# Altium footprint library CN_IDC.PcbLib: 43 footprints (part 3 of 3)
Each footprint in its own frame and in the unit in brackets; x right, y up, seen from the top. Pads: shape width x height; smd on the part's side, far side on the other; paste and mask are expansions set on the pad; w line width, h text height; cw(c..) or ccw(c..) is an arc to the next point about the centre after c.
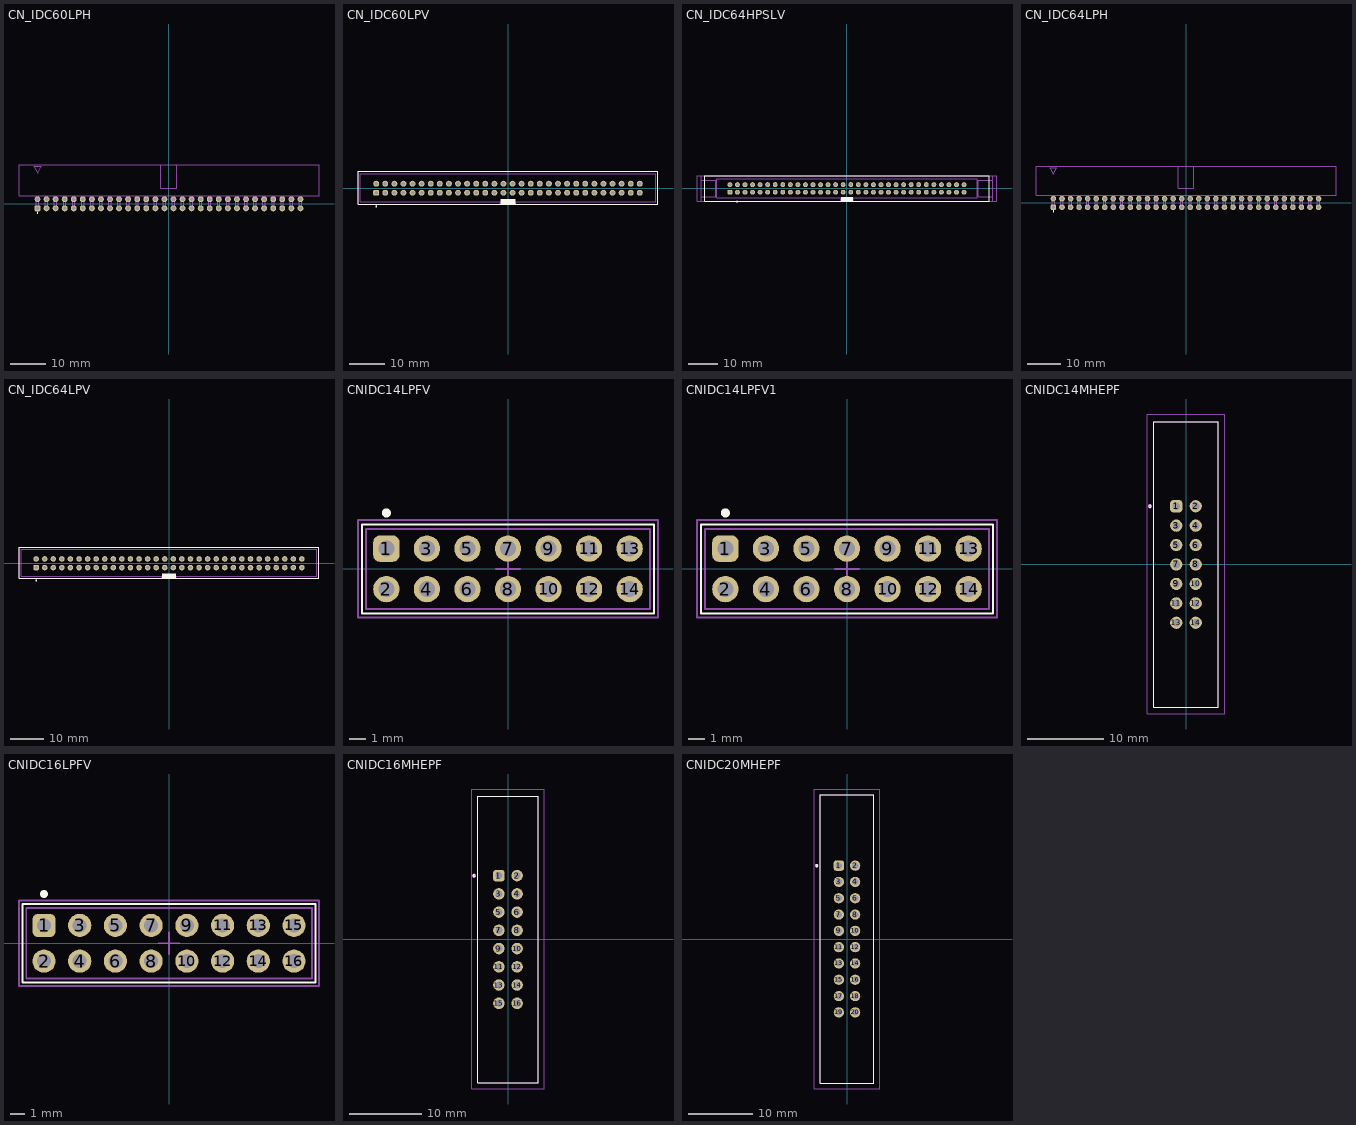
[diagram p2: the footprints below, top view; thin cyan lines are the x and y axes]

## CN_IDC60LPH [mm] "Connector IDC Low Profile Male Header, Thru-Hole; 60 pin; Hertical; R2.54 mm; Body 50.8 x 9.2 x 8.6 mm (LxWxH)"
height 8.6
pads (60):
  rrect50% 1.65x1.65 hole 1: 1(-36.83,-1.27)
  round 1.65 hole 1: 2(-36.83,1.27) 3(-34.29,-1.27) 4(-34.29,1.27) 5(-31.75,-1.27) 6(-31.75,1.27) 7(-29.21,-1.27) 8(-29.21,1.27) 9(-26.67,-1.27) 10(-26.67,1.27) 11(-24.13,-1.27) 12(-24.13,1.27) 13(-21.59,-1.27) 14(-21.59,1.27) 15(-19.05,-1.27) 16(-19.05,1.27) 17(-16.51,-1.27) 18(-16.51,1.27) 19(-13.97,-1.27) 20(-13.97,1.27) 21(-11.43,-1.27) 22(-11.43,1.27) 23(-8.89,-1.27) 24(-8.89,1.27) 25(-6.35,-1.27) 26(-6.35,1.27) 27(-3.81,-1.27) 28(-3.81,1.27) 29(-1.27,-1.27) 30(-1.27,1.27) 31(1.27,-1.27) 32(1.27,1.27) 33(3.81,-1.27) 34(3.81,1.27) 35(6.35,-1.27) 36(6.35,1.27) 37(8.89,-1.27) 38(8.89,1.27) 39(11.43,-1.27) 40(11.43,1.27) 41(13.97,-1.27) 42(13.97,1.27) 43(16.51,-1.27) 44(16.51,1.27) 45(19.05,-1.27) 46(19.05,1.27) 47(21.59,-1.27) 48(21.59,1.27) 49(24.13,-1.27) 50(24.13,1.27) 51(26.67,-1.27) 52(26.67,1.27) 53(29.21,-1.27) 54(29.21,1.27) 55(31.75,-1.27) 56(31.75,1.27) 57(34.29,-1.27) 58(34.29,1.27) 59(36.83,-1.27) 60(36.83,1.27)
Top Overlay:
  circle w0.15: c-36.835,-2.5 r0.125
Mechanical 13:
  lines w0.1: -37.16,2.286 -37.16,-1.6 -36.5,-1.6 -36.5,2.286 ; -34.62,2.286 -34.62,-1.6 -33.96,-1.6 -33.96,2.286 ; -32.08,2.286 -32.08,-1.6 -31.42,-1.6 -31.42,2.286 ; -29.54,2.286 -29.54,-1.6 -28.88,-1.6 -28.88,2.286 ; -27,2.286 -27,-1.6 -26.34,-1.6 -26.34,2.286 ; -24.46,2.286 -24.46,-1.6 -23.8,-1.6 -23.8,2.286 ; -21.92,2.286 -21.92,-1.6 -21.26,-1.6 -21.26,2.286 ; -19.38,2.286 -19.38,-1.6 -18.72,-1.6 -18.72,2.286 ; -16.84,2.286 -16.84,-1.6 -16.18,-1.6 -16.18,2.286 ; -14.3,2.286 -14.3,-1.6 -13.64,-1.6 -13.64,2.286 ; -11.76,2.286 -11.76,-1.6 -11.1,-1.6 -11.1,2.286 ; -9.22,2.286 -9.22,-1.6 -8.56,-1.6 -8.56,2.286 ; -6.68,2.286 -6.68,-1.6 -6.02,-1.6 -6.02,2.286 ; -4.14,2.286 -4.14,-1.6 -3.48,-1.6 -3.48,2.286 ; -2.25,4.318 2.225,4.318 ; -1.6,2.286 -1.6,-1.6 -0.94,-1.6 -0.94,2.286 ; 0.94,2.286 0.94,-1.6 1.6,-1.6 1.6,2.286 ; 3.48,2.286 3.48,-1.6 4.14,-1.6 4.14,2.286 ; 6.02,2.286 6.02,-1.6 6.68,-1.6 6.68,2.286 ; 8.56,2.286 8.56,-1.6 9.22,-1.6 9.22,2.286 ; 11.1,2.286 11.1,-1.6 11.76,-1.6 11.76,2.286 ; 13.64,2.286 13.64,-1.6 14.3,-1.6 14.3,2.286 ; 16.18,2.286 16.18,-1.6 16.84,-1.6 16.84,2.286 ; 18.72,2.286 18.72,-1.6 19.38,-1.6 19.38,2.286 ; 21.26,2.286 21.26,-1.6 21.92,-1.6 21.92,2.286 ; 23.8,2.286 23.8,-1.6 24.46,-1.6 24.46,2.286 ; 26.34,2.286 26.34,-1.6 27,-1.6 27,2.286 ; 28.88,2.286 28.88,-1.6 29.54,-1.6 29.54,2.286 ; 31.42,2.286 31.42,-1.6 32.08,-1.6 32.08,2.286 ; 33.96,2.286 33.96,-1.6 34.62,-1.6 34.62,2.286 ; 36.5,2.286 36.5,-1.6 37.16,-1.6 37.16,2.286
  lines w0.102: -2.25,4.318 -2.25,10.922 ; 2.25,4.343 2.25,10.922 ; -42.012,2.286 -42.012,10.922 42.037,10.922 42.037,2.286 -42.012,2.286
  lines w0.15: -37.875,10.472 -36.825,8.597 -35.775,10.472 -37.875,10.472
  text "60" at 38.03,0.52 h1.5
  text "59" at 38.03,-2.02 h1.5
  text "1" at -38.53,-2.02 h1.5
  text "2" at -39.03,0.52 h1.5
3D body: height 9.2, standoff -3.2, extent -42.01,-1.598 42.01,10.922

## CN_IDC60LPV [mm] "Connector IDC Low Profile Male Header, Thru-Hole; 60 pin; Vertical; R2.54 mm; Body 83.8 x 9.2 x 9.45 mm (LxWxH)"
height 9.45
pads (60):
  rrect50% 1.65x1.65 hole 1: 1(-36.83,-1.27)
  round 1.65 hole 1: 2(-36.83,1.27) 3(-34.29,-1.27) 4(-34.29,1.27) 5(-31.75,-1.27) 6(-31.75,1.27) 7(-29.21,-1.27) 8(-29.21,1.27) 9(-26.67,-1.27) 10(-26.67,1.27) 11(-24.13,-1.27) 12(-24.13,1.27) 13(-21.59,-1.27) 14(-21.59,1.27) 15(-19.05,-1.27) 16(-19.05,1.27) 17(-16.51,-1.27) 18(-16.51,1.27) 19(-13.97,-1.27) 20(-13.97,1.27) 21(-11.43,-1.27) 22(-11.43,1.27) 23(-8.89,-1.27) 24(-8.89,1.27) 25(-6.35,-1.27) 26(-6.35,1.27) 27(-3.81,-1.27) 28(-3.81,1.27) 29(-1.27,-1.27) 30(-1.27,1.27) 31(1.27,-1.27) 32(1.27,1.27) 33(3.81,-1.27) 34(3.81,1.27) 35(6.35,-1.27) 36(6.35,1.27) 37(8.89,-1.27) 38(8.89,1.27) 39(11.43,-1.27) 40(11.43,1.27) 41(13.97,-1.27) 42(13.97,1.27) 43(16.51,-1.27) 44(16.51,1.27) 45(19.05,-1.27) 46(19.05,1.27) 47(21.59,-1.27) 48(21.59,1.27) 49(24.13,-1.27) 50(24.13,1.27) 51(26.67,-1.27) 52(26.67,1.27) 53(29.21,-1.27) 54(29.21,1.27) 55(31.75,-1.27) 56(31.75,1.27) 57(34.29,-1.27) 58(34.29,1.27) 59(36.83,-1.27) 60(36.83,1.27)
Top Overlay:
  circle w0.15: c-36.828,-5.08 r0.125
  rectangle: -2.1,-4.473 2.1,-3.048
  lines w0.15: -41.91,-4.463 41.91,-4.463 41.91,4.773 -41.91,4.773 -41.91,-4.463
Mechanical 13:
  lines w0.102: -2.2,-4.473 -2.2,-3.8 -41.275,-3.8 -41.275,4.11 41.275,4.11 41.275,-3.8 2.2,-3.8 2.2,-4.473 ; -41.91,-4.46 -41.91,4.77 41.91,4.77 41.91,-4.46 -41.91,-4.46
  text "2" at -39.03,0.52 h1.5
  text "1" at -38.53,-2.02 h1.5
  text "59" at 38.03,-2.02 h1.5
  text "60" at 38.03,0.52 h1.5
3D body: height 9.4, standoff -3.25, extent -42.01,-4.45 42.01,4.75

## CN_IDC64HPSLV [mm] "Connector IDC High Profile Male Header, Thru-Hole; 64pin; Vertical; R2.54 mm; Body 17.78 x 9.2 x 9.45 mm (LxWxH)"
height 9.45
pads (64):
  rrect50% 1.65x1.65 hole 1: 1(-39.37,-1.27)
  round 1.65 hole 1: 2(-39.37,1.27) 3(-36.83,-1.27) 4(-36.83,1.27) 5(-34.29,-1.27) 6(-34.29,1.27) 7(-31.75,-1.27) 8(-31.75,1.27) 9(-29.21,-1.27) 10(-29.21,1.27) 11(-26.67,-1.27) 12(-26.67,1.27) 13(-24.13,-1.27) 14(-24.13,1.27) 15(-21.59,-1.27) 16(-21.59,1.27) 17(-19.05,-1.27) 18(-19.05,1.27) 19(-16.51,-1.27) 20(-16.51,1.27) 21(-13.97,-1.27) 22(-13.97,1.27) 23(-11.43,-1.27) 24(-11.43,1.27) 25(-8.89,-1.27) 26(-8.89,1.27) 27(-6.35,-1.27) 28(-6.35,1.27) 29(-3.81,-1.27) 30(-3.81,1.27) 31(-1.27,-1.27) 32(-1.27,1.27) 33(1.27,-1.27) 34(1.27,1.27) 35(3.81,-1.27) 36(3.81,1.27) 37(6.35,-1.27) 38(6.35,1.27) 39(8.89,-1.27) 40(8.89,1.27) 41(11.43,-1.27) 42(11.43,1.27) 43(13.97,-1.27) 44(13.97,1.27) 45(16.51,-1.27) 46(16.51,1.27) 47(19.05,-1.27) 48(19.05,1.27) 49(21.59,-1.27) 50(21.59,1.27) 51(24.13,-1.27) 52(24.13,1.27) 53(26.67,-1.27) 54(26.67,1.27) 55(29.21,-1.27) 56(29.21,1.27) 57(31.75,-1.27) 58(31.75,1.27) 59(34.29,-1.27) 60(34.29,1.27) 61(36.83,-1.27) 62(36.83,1.27) 63(39.37,-1.27) 64(39.37,1.27)
Top Overlay:
  circle w0.15: c-36.955,-4.445 r0.125
  rectangle: -2.05,-4.25 2.05,-2.825
  lines w0.15: -47.892,-4.25 -47.892,4.2 47.908,4.2 47.908,-4.25 -47.892,-4.25
Mechanical 13:
  lines w0.1: -49.005,-4.25 -49.005,4.2 ; -49.005,-2.775 -44.105,-2.775 -44.105,2.775 -49.005,2.775 ; 49.005,-4.25 49.005,4.2 ; 49.005,-2.775 44.105,-2.775 44.105,2.775 49.005,2.775
  lines w0.102: -2.159,-4.25 -2.159,-3.2 -43.815,-3.2 -43.815,3.25 43.815,3.25 43.815,-3.2 2.159,-3.2 2.159,-4.25 ; -50.432,-4.25 -50.432,4.2 50.448,4.2 50.448,-4.25 -50.432,-4.25
  text "63" at 40.57,-2.02 h1.5
  text "64" at 40.57,0.52 h1.5
  text "1" at -41.07,-2.02 h1.5
  text "2" at -41.57,0.52 h1.5
3D body: height 14, standoff -2.9, extent 36.53,0.97 37.13,1.57
3D body: height 14, standoff -2.9, extent 36.53,-1.57 37.13,-0.97
3D body: height 14, standoff -2.9, extent 33.99,-1.57 34.59,-0.97
3D body: height 14, standoff -2.9, extent 33.99,0.97 34.59,1.57
3D body: height 14, standoff -2.9, extent -14.27,0.97 -13.67,1.57
3D body: height 14, standoff -2.9, extent -14.27,-1.57 -13.67,-0.97
3D body: height 14, standoff -2.9, extent -16.81,-1.57 -16.21,-0.97
3D body: height 14, standoff -2.9, extent -16.81,0.97 -16.21,1.57
3D body: height 14, standoff -2.9, extent -32.05,0.97 -31.45,1.57
3D body: height 14, standoff -2.9, extent -32.05,-1.57 -31.45,-0.97
3D body: height 14, standoff -2.9, extent -21.89,0.97 -21.29,1.57
3D body: height 14, standoff -2.9, extent -21.89,-1.57 -21.29,-0.97
3D body: height 14, standoff -2.9, extent -24.43,-1.57 -23.83,-0.97
3D body: height 14, standoff -2.9, extent -24.43,0.97 -23.83,1.57
3D body: height 14, standoff -2.9, extent -29.51,-1.57 -28.91,-0.97
3D body: height 14, standoff -2.9, extent -29.51,0.97 -28.91,1.57
3D body: height 14, standoff -2.9, extent -26.97,0.97 -26.37,1.57
3D body: height 14, standoff -2.9, extent -26.97,-1.57 -26.37,-0.97
3D body: height 23.59, standoff -2.91, extent -50.432,-4.25 50.448,4.25
3D body: height 14, standoff -2.9, extent -19.35,-1.57 -18.75,-0.97
3D body: height 14, standoff -2.9, extent -19.35,0.97 -18.75,1.57
3D body: height 14, standoff -2.9, extent -11.73,0.97 -11.13,1.57
3D body: height 14, standoff -2.9, extent -11.73,-1.57 -11.13,-0.97
3D body: height 14, standoff -2.9, extent -9.19,0.97 -8.59,1.57
3D body: height 14, standoff -2.9, extent -9.19,-1.57 -8.59,-0.97
3D body: height 14, standoff -2.9, extent -6.65,-1.57 -6.05,-0.97
3D body: height 14, standoff -2.9, extent -6.65,0.97 -6.05,1.57
3D body: height 14, standoff -2.9, extent -34.59,0.97 -33.99,1.57
3D body: height 14, standoff -2.9, extent -34.59,-1.57 -33.99,-0.97
3D body: height 14, standoff -2.9, extent -37.13,-1.57 -36.53,-0.97
3D body: height 14, standoff -2.9, extent -37.13,0.97 -36.53,1.57
3D body: height 14, standoff -2.9, extent -1.57,0.97 -0.97,1.57
3D body: height 14, standoff -2.9, extent -1.57,-1.57 -0.97,-0.97
3D body: height 14, standoff -2.9, extent -4.11,-1.57 -3.51,-0.97
3D body: height 14, standoff -2.9, extent -4.11,0.97 -3.51,1.57
3D body: height 14, standoff -2.9, extent 3.51,0.97 4.11,1.57
3D body: height 14, standoff -2.9, extent 3.51,-1.57 4.11,-0.97
3D body: height 14, standoff -2.9, extent 6.05,-1.57 6.65,-0.97
3D body: height 14, standoff -2.9, extent 6.05,0.97 6.65,1.57
3D body: height 14, standoff -2.9, extent 0.97,0.97 1.57,1.57
3D body: height 14, standoff -2.9, extent 0.97,-1.57 1.57,-0.97
3D body: height 14, standoff -2.9, extent 13.67,-1.57 14.27,-0.97
3D body: height 14, standoff -2.9, extent 13.67,0.97 14.27,1.57
3D body: height 14, standoff -2.9, extent 18.75,0.97 19.35,1.57
3D body: height 14, standoff -2.9, extent 18.75,-1.57 19.35,-0.97
3D body: height 14, standoff -2.9, extent 16.21,-1.57 16.81,-0.97
3D body: height 14, standoff -2.9, extent 16.21,0.97 16.81,1.57
3D body: height 14, standoff -2.9, extent 8.59,0.97 9.19,1.57
3D body: height 14, standoff -2.9, extent 8.59,-1.57 9.19,-0.97
3D body: height 14, standoff -2.9, extent 11.13,-1.57 11.73,-0.97
3D body: height 14, standoff -2.9, extent 11.13,0.97 11.73,1.57
3D body: height 14, standoff -2.9, extent 23.83,0.97 24.43,1.57
3D body: height 14, standoff -2.9, extent 23.83,-1.57 24.43,-0.97
3D body: height 14, standoff -2.9, extent 21.29,-1.57 21.89,-0.97
3D body: height 14, standoff -2.9, extent 21.29,0.97 21.89,1.57
3D body: height 14, standoff -2.9, extent 28.91,0.97 29.51,1.57
3D body: height 14, standoff -2.9, extent 28.91,-1.57 29.51,-0.97
3D body: height 14, standoff -2.9, extent 31.45,-1.57 32.05,-0.97
3D body: height 14, standoff -2.9, extent 31.45,0.97 32.05,1.57
3D body: height 14, standoff -2.9, extent 26.37,0.97 26.97,1.57
3D body: height 14, standoff -2.9, extent 26.37,-1.57 26.97,-0.97

## CN_IDC64LPH [mm] "Connector IDC Low Profile Male Header, Thru-Hole; 64 pin; Hertical; R2.54 mm; Body 50.8 x 9.2 x 8.6 mm (LxWxH)"
height 8.6
pads (64):
  rrect50% 1.65x1.65 hole 1: 1(-39.37,-1.27)
  round 1.65 hole 1: 2(-39.37,1.27) 3(-36.83,-1.27) 4(-36.83,1.27) 5(-34.29,-1.27) 6(-34.29,1.27) 7(-31.75,-1.27) 8(-31.75,1.27) 9(-29.21,-1.27) 10(-29.21,1.27) 11(-26.67,-1.27) 12(-26.67,1.27) 13(-24.13,-1.27) 14(-24.13,1.27) 15(-21.59,-1.27) 16(-21.59,1.27) 17(-19.05,-1.27) 18(-19.05,1.27) 19(-16.51,-1.27) 20(-16.51,1.27) 21(-13.97,-1.27) 22(-13.97,1.27) 23(-11.43,-1.27) 24(-11.43,1.27) 25(-8.89,-1.27) 26(-8.89,1.27) 27(-6.35,-1.27) 28(-6.35,1.27) 29(-3.81,-1.27) 30(-3.81,1.27) 31(-1.27,-1.27) 32(-1.27,1.27) 33(1.27,-1.27) 34(1.27,1.27) 35(3.81,-1.27) 36(3.81,1.27) 37(6.35,-1.27) 38(6.35,1.27) 39(8.89,-1.27) 40(8.89,1.27) 41(11.43,-1.27) 42(11.43,1.27) 43(13.97,-1.27) 44(13.97,1.27) 45(16.51,-1.27) 46(16.51,1.27) 47(19.05,-1.27) 48(19.05,1.27) 49(21.59,-1.27) 50(21.59,1.27) 51(24.13,-1.27) 52(24.13,1.27) 53(26.67,-1.27) 54(26.67,1.27) 55(29.21,-1.27) 56(29.21,1.27) 57(31.75,-1.27) 58(31.75,1.27) 59(34.29,-1.27) 60(34.29,1.27) 61(36.83,-1.27) 62(36.83,1.27) 63(39.37,-1.27) 64(39.37,1.27)
Top Overlay:
  circle w0.15: c-39.375,-2.5 r0.125
Mechanical 13:
  lines w0.1: -39.7,2.286 -39.7,-1.6 -39.04,-1.6 -39.04,2.286 ; -37.16,2.286 -37.16,-1.6 -36.5,-1.6 -36.5,2.286 ; -34.62,2.286 -34.62,-1.6 -33.96,-1.6 -33.96,2.286 ; -32.08,2.286 -32.08,-1.6 -31.42,-1.6 -31.42,2.286 ; -29.54,2.286 -29.54,-1.6 -28.88,-1.6 -28.88,2.286 ; -27,2.286 -27,-1.6 -26.34,-1.6 -26.34,2.286 ; -24.46,2.286 -24.46,-1.6 -23.8,-1.6 -23.8,2.286 ; -21.92,2.286 -21.92,-1.6 -21.26,-1.6 -21.26,2.286 ; -19.38,2.286 -19.38,-1.6 -18.72,-1.6 -18.72,2.286 ; -16.84,2.286 -16.84,-1.6 -16.18,-1.6 -16.18,2.286 ; -14.3,2.286 -14.3,-1.6 -13.64,-1.6 -13.64,2.286 ; -11.76,2.286 -11.76,-1.6 -11.1,-1.6 -11.1,2.286 ; -9.22,2.286 -9.22,-1.6 -8.56,-1.6 -8.56,2.286 ; -6.68,2.286 -6.68,-1.6 -6.02,-1.6 -6.02,2.286 ; -4.14,2.286 -4.14,-1.6 -3.48,-1.6 -3.48,2.286 ; -2.25,4.318 2.225,4.318 ; -1.6,2.286 -1.6,-1.6 -0.94,-1.6 -0.94,2.286 ; 0.94,2.286 0.94,-1.6 1.6,-1.6 1.6,2.286 ; 3.48,2.286 3.48,-1.6 4.14,-1.6 4.14,2.286 ; 6.02,2.286 6.02,-1.6 6.68,-1.6 6.68,2.286 ; 8.56,2.286 8.56,-1.6 9.22,-1.6 9.22,2.286 ; 11.1,2.286 11.1,-1.6 11.76,-1.6 11.76,2.286 ; 13.64,2.286 13.64,-1.6 14.3,-1.6 14.3,2.286 ; 16.18,2.286 16.18,-1.6 16.84,-1.6 16.84,2.286 ; 18.72,2.286 18.72,-1.6 19.38,-1.6 19.38,2.286 ; 21.26,2.286 21.26,-1.6 21.92,-1.6 21.92,2.286 ; 23.8,2.286 23.8,-1.6 24.46,-1.6 24.46,2.286 ; 26.34,2.286 26.34,-1.6 27,-1.6 27,2.286 ; 28.88,2.286 28.88,-1.6 29.54,-1.6 29.54,2.286 ; 31.42,2.286 31.42,-1.6 32.08,-1.6 32.08,2.286 ; 33.96,2.286 33.96,-1.6 34.62,-1.6 34.62,2.286 ; 36.5,2.286 36.5,-1.6 37.16,-1.6 37.16,2.286 ; 39.04,2.286 39.04,-1.6 39.7,-1.6 39.7,2.286
  lines w0.102: -2.25,4.318 -2.25,10.922 ; 2.25,4.343 2.25,10.922 ; -44.552,2.286 44.552,2.286 44.552,10.922 -44.552,10.922 -44.552,2.286
  lines w0.15: -40.415,10.472 -38.315,10.472 -39.365,8.597 -40.415,10.472
  text "2" at -41.57,0.52 h1.5
  text "1" at -41.07,-2.02 h1.5
  text "63" at 40.57,-2.02 h1.5
  text "64" at 40.57,0.52 h1.5
3D body: height 9.2, standoff -3.2, extent -44.55,-1.598 44.55,10.922

## CN_IDC64LPV [mm] "Connector IDC Low Profile Male Header, Thru-Hole; 64pin; Vertical; R2.54 mm; Body 83.8 x 9.2 x 9.45 mm (LxWxH)"
height 9.45
pads (64):
  rrect50% 1.65x1.65 hole 1: 1(-39.37,-1.27)
  round 1.65 hole 1: 2(-39.37,1.27) 3(-36.83,-1.27) 4(-36.83,1.27) 5(-34.29,-1.27) 6(-34.29,1.27) 7(-31.75,-1.27) 8(-31.75,1.27) 9(-29.21,-1.27) 10(-29.21,1.27) 11(-26.67,-1.27) 12(-26.67,1.27) 13(-24.13,-1.27) 14(-24.13,1.27) 15(-21.59,-1.27) 16(-21.59,1.27) 17(-19.05,-1.27) 18(-19.05,1.27) 19(-16.51,-1.27) 20(-16.51,1.27) 21(-13.97,-1.27) 22(-13.97,1.27) 23(-11.43,-1.27) 24(-11.43,1.27) 25(-8.89,-1.27) 26(-8.89,1.27) 27(-6.35,-1.27) 28(-6.35,1.27) 29(-3.81,-1.27) 30(-3.81,1.27) 31(-1.27,-1.27) 32(-1.27,1.27) 33(1.27,-1.27) 34(1.27,1.27) 35(3.81,-1.27) 36(3.81,1.27) 37(6.35,-1.27) 38(6.35,1.27) 39(8.89,-1.27) 40(8.89,1.27) 41(11.43,-1.27) 42(11.43,1.27) 43(13.97,-1.27) 44(13.97,1.27) 45(16.51,-1.27) 46(16.51,1.27) 47(19.05,-1.27) 48(19.05,1.27) 49(21.59,-1.27) 50(21.59,1.27) 51(24.13,-1.27) 52(24.13,1.27) 53(26.67,-1.27) 54(26.67,1.27) 55(29.21,-1.27) 56(29.21,1.27) 57(31.75,-1.27) 58(31.75,1.27) 59(34.29,-1.27) 60(34.29,1.27) 61(36.83,-1.27) 62(36.83,1.27) 63(39.37,-1.27) 64(39.37,1.27)
Top Overlay:
  circle w0.15: c-39.368,-5.08 r0.125
  rectangle: -2.1,-4.473 2.1,-3.048
  lines w0.15: -44.45,-4.463 44.425,-4.463 44.425,4.773 -44.45,4.773 -44.45,-4.463
Mechanical 13:
  lines w0.102: -2.2,-4.473 -2.2,-3.8 -43.815,-3.8 -43.815,4.11 43.79,4.11 43.79,-3.8 2.2,-3.8 2.2,-4.473 ; -44.45,-4.46 -44.45,4.77 44.425,4.77 44.425,-4.46 -44.45,-4.46
  text "2" at -41.57,0.52 h1.5
  text "1" at -41.07,-2.02 h1.5
  text "63" at 40.57,-2.02 h1.5
  text "64" at 40.57,0.52 h1.5
3D body: height 9.4, standoff -3.25, extent -44.55,-4.45 44.55,4.75

## CNIDC14LPFV [mm] "Connector IDC Low Profile Female Header, Thru-Hole; 16 pin female; Vertical; R2.54 mm; Body 17.78 x 5 x 7.1 mm (LxWxH)"
height 7.1
pads (14):
  rrect50% 1.65x1.65 hole 1: 1(-7.62,1.27)
  round 1.65 hole 1: 2(-7.62,-1.27) 3(-5.08,1.27) 4(-5.08,-1.27) 5(-2.54,1.27) 6(-2.54,-1.27) 7(0,1.27) 8(0,-1.27) 9(2.54,1.27) 10(2.54,-1.27) 11(5.08,1.27) 12(5.08,-1.27) 13(7.62,1.27) 14(7.62,-1.27)
Top Overlay:
  circle w0.254: c-7.62,3.505 r0.152
  lines w0.127: -9.144,-2.794 -9.144,2.794 9.144,2.794 9.144,-2.794 -9.144,-2.794
Mechanical 13:
  lines w0.127: -8.89,-2.5 -8.89,2.5 8.89,2.5 8.89,-2.5 -8.89,-2.5
  text "13" at 9.652,0.432 h1.5
  text "1" at -10.185,0.432 h1.5
  text "2" at -10.643,-2.108 h1.5
  text "14" at 9.652,-2.108 h1.5
Mechanical 15:
  lines w0.127: -0.762,0 0.762,0 ; 0,-0.762 0,0.762 ; -9.398,-3.048 -9.398,3.048 9.398,3.048 9.398,-3.048 -9.398,-3.048
3D body: height 7.1, standoff 0, extent -8.89,-2.54 8.89,2.54
3D body: height 0, standoff 0, extent 2.159,-1.651 2.921,-0.889
3D body: height 0, standoff 0, extent 2.159,0.889 2.921,1.651
3D body: height 0, standoff 0, extent -0.381,0.889 0.381,1.651
3D body: height 0, standoff 0, extent -0.381,-1.651 0.381,-0.889
3D body: height 0, standoff 0, extent -2.921,-1.651 -2.159,-0.889
3D body: height 0, standoff 0, extent -2.921,0.889 -2.159,1.651
3D body: height 0, standoff 0, extent -5.461,0.889 -4.699,1.651
3D body: height 0, standoff 0, extent -5.461,-1.651 -4.699,-0.889
3D body: height 0, standoff 0, extent -8.001,-1.651 -7.239,-0.889
3D body: height 0, standoff 0, extent -8.001,0.889 -7.239,1.651
3D body: height 0, standoff 0, extent 4.699,-1.651 5.461,-0.889
3D body: height 0, standoff 0, extent 4.699,0.889 5.461,1.651
3D body: height 0, standoff 0, extent 7.239,0.889 8.001,1.651
3D body: height 0, standoff 0, extent 7.239,-1.651 8.001,-0.889

## CNIDC14LPFV1 [mm] "Connector IDC Low Profile Female Header, Thru-Hole; 14 pin female; Vertical; R2.54 mm; Body 17.78 x 5 .08x 7.37 mm (LxWxH)"
height 7.37
pads (14):
  rrect50% 1.65x1.65 hole 1: 1(-7.62,1.27)
  round 1.65 hole 1: 2(-7.62,-1.27) 3(-5.08,1.27) 4(-5.08,-1.27) 5(-2.54,1.27) 6(-2.54,-1.27) 7(0,1.27) 8(0,-1.27) 9(2.54,1.27) 10(2.54,-1.27) 11(5.08,1.27) 12(5.08,-1.27) 13(7.62,1.27) 14(7.62,-1.27)
Top Overlay:
  circle w0.254: c-7.62,3.505 r0.152
  lines w0.127: -9.144,-2.794 9.144,-2.794 9.144,2.794 -9.144,2.794 -9.144,-2.794
Mechanical 13:
  lines w0.127: -8.89,-2.5 8.89,-2.5 8.89,2.5 -8.89,2.5 -8.89,-2.5
  text "14" at 9.652,-2.108 h1.5
  text "2" at -10.643,-2.108 h1.5
  text "1" at -10.185,0.432 h1.5
  text "13" at 9.652,0.432 h1.5
Mechanical 15:
  lines w0.127: -0.762,0 0.762,0 ; 0,-0.762 0,0.762 ; -9.398,-3.048 9.398,-3.048 9.398,3.048 -9.398,3.048 -9.398,-3.048
3D body: height 0, standoff 0, extent 7.239,-1.651 8.001,-0.889
3D body: height 0, standoff 0, extent 7.239,0.889 8.001,1.651
3D body: height 0, standoff 0, extent 4.699,0.889 5.461,1.651
3D body: height 0, standoff 0, extent 4.699,-1.651 5.461,-0.889
3D body: height 0, standoff 0, extent -8.001,0.889 -7.239,1.651
3D body: height 0, standoff 0, extent -8.001,-1.651 -7.239,-0.889
3D body: height 0, standoff 0, extent -5.461,-1.651 -4.699,-0.889
3D body: height 0, standoff 0, extent -5.461,0.889 -4.699,1.651
3D body: height 0, standoff 0, extent -2.921,0.889 -2.159,1.651
3D body: height 0, standoff 0, extent -2.921,-1.651 -2.159,-0.889
3D body: height 0, standoff 0, extent -0.381,-1.651 0.381,-0.889
3D body: height 0, standoff 0, extent -0.381,0.889 0.381,1.651
3D body: height 0, standoff 0, extent 2.159,0.889 2.921,1.651
3D body: height 0, standoff 0, extent 2.159,-1.651 2.921,-0.889
3D body: height 7.37, standoff 0, extent -8.89,-2.54 8.89,2.54

## CNIDC14MHEPF [mm] "Male header 2x7 pin R2.54mm press fit + eject"
height 24.7
pads (14):
  rrect50% 1.6x1.6 hole 1 paste-1.27: 1(-1.27,7.62)
  round 1.6 hole 1 paste-1.27: 2(1.27,7.62) 3(-1.27,5.08) 4(1.27,5.08) 5(-1.27,2.54) 6(1.27,2.54) 7(-1.27,0) 8(1.27,0) 9(-1.27,-2.54) 10(1.27,-2.54) 11(-1.27,-5.08) 12(1.27,-5.08) 13(-1.27,-7.62) 14(1.27,-7.62)
Top Overlay:
  circle w0.15: c-4.724,7.62 r0.152
  lines w0.127: -4.191,-18.669 -4.191,18.669 4.191,18.669 4.191,-18.669 -4.191,-18.669
Mechanical 13:
  circle w0.254: c-4.724,7.62 r0.152
  lines w0.102: -4.2,-18.66 4.2,-18.66 4.2,18.66 -4.2,18.66 -4.2,-18.66
Mechanical 15:
  lines w0.127: -5.08,-19.558 5.08,-19.558 5.08,19.685 -5.08,19.685 -5.08,-19.558
Mechanical 17:
  circle w1.15: c-1.27,-7.62 r0.01
  circle w1.15: c-1.27,-5.08 r0.01
  circle w1.15: c-1.27,-2.54 r0.01
  circle w1.15: c-1.27,0 r0.01
  circle w1.15: c-1.27,2.54 r0.01
  circle w1.15: c1.27,-7.62 r0.01
  circle w1.15: c1.27,-5.08 r0.01
  circle w1.15: c1.27,-2.54 r0.01
  circle w1.15: c1.27,0 r0.01
  circle w1.15: c1.27,2.54 r0.01
  circle w1.15: c-1.27,5.08 r0.01
  circle w1.15: c-1.27,7.62 r0.01
  circle w1.15: c1.27,5.08 r0.01
  circle w1.15: c1.27,7.62 r0.01
  text "Drilled hole: 1.15 ± 0.025  mm" at -7.493,-12.7 h2.5
  text "Finished hole: 1 + 0.09 - 0.06 mm" at -5.461,-12.7 h2.5
3D body: height 6, standoff 0, extent -4.2,-18.66 4.2,18.66
3D body: height 24.7, standoff 13.2, extent -1.524,11.548 1.524,18.66
3D body: height 24.7, standoff 13.2, extent -1.524,-18.66 1.524,-11.548
3D body: height 13.2, standoff 6, extent 0,-18.66 4.2,18.66
3D body: height 13.2, standoff 6, extent -4.2,2.54 0,18.66
3D body: height 13.2, standoff 6, extent -4.2,-18.66 0,-2.54
3D body: height 13.2, standoff 6, extent -1.651,7.239 -0.889,8.001
3D body: height 13.2, standoff 6, extent -1.651,4.699 -0.889,5.461
3D body: height 13.2, standoff 6, extent -1.651,2.159 -0.889,2.921
3D body: height 13.2, standoff 6, extent -1.651,-0.381 -0.889,0.381
3D body: height 13.2, standoff 6, extent -1.651,-2.921 -0.889,-2.159
3D body: height 13.2, standoff 6, extent -1.651,-5.461 -0.889,-4.699
3D body: height 13.2, standoff 6, extent -1.651,-8.001 -0.889,-7.239
3D body: height 0, standoff -4.6, extent -1.524,7.112 -1.016,8.128
3D body: height 0, standoff -4.6, extent -1.524,4.572 -1.016,5.588
3D body: height 0, standoff -4.6, extent -1.524,2.032 -1.016,3.048
3D body: height 0, standoff -4.6, extent -1.524,-0.508 -1.016,0.508
3D body: height 0, standoff -4.6, extent -1.524,-3.048 -1.016,-2.032
3D body: height 0, standoff -4.6, extent -1.524,-5.588 -1.016,-4.572
3D body: height 0, standoff -4.6, extent -1.524,-8.128 -1.016,-7.112
3D body: height 0, standoff -4.6, extent 1.016,-8.128 1.524,-7.112
3D body: height 0, standoff -4.6, extent 1.016,-5.588 1.524,-4.572
3D body: height 0, standoff -4.6, extent 1.016,-3.048 1.524,-2.032
3D body: height 0, standoff -4.6, extent 1.016,-0.508 1.524,0.508
3D body: height 0, standoff -4.6, extent 1.016,2.032 1.524,3.048
3D body: height 0, standoff -4.6, extent 1.016,4.572 1.524,5.588
3D body: height 0, standoff -4.6, extent 1.016,7.112 1.524,8.128
3D body: height 13.2, standoff 6, extent 0.889,-8.001 1.651,-7.239
3D body: height 13.2, standoff 6, extent 0.889,-5.461 1.651,-4.699
3D body: height 13.2, standoff 6, extent 0.889,-2.921 1.651,-2.159
3D body: height 13.2, standoff 6, extent 0.889,-0.381 1.651,0.381
3D body: height 13.2, standoff 6, extent 0.889,2.159 1.651,2.921
3D body: height 13.2, standoff 6, extent 0.889,4.699 1.651,5.461
3D body: height 13.2, standoff 6, extent 0.889,7.239 1.651,8.001

## CNIDC16LPFV [mm] "Connector IDC Low Profile Female Header, Thru-Hole; 16 pin female; Vertical; R2.54 mm; Body 20.32 x 5 x 7.1 mm (LxWxH)"
height 7.1
pads (16):
  rrect50% 1.65x1.65 hole 1: 1(-8.89,1.27)
  round 1.65 hole 1: 2(-8.89,-1.27) 3(-6.35,1.27) 4(-6.35,-1.27) 5(-3.81,1.27) 6(-3.81,-1.27) 7(-1.27,1.27) 8(-1.27,-1.27) 9(1.27,1.27) 10(1.27,-1.27) 11(3.81,1.27) 12(3.81,-1.27) 13(6.35,1.27) 14(6.35,-1.27) 15(8.89,1.27) 16(8.89,-1.27)
Top Overlay:
  circle w0.254: c-8.89,3.505 r0.152
  lines w0.127: -10.414,-2.794 -10.414,2.794 10.414,2.794 10.414,-2.794 -10.414,-2.794
Mechanical 13:
  lines w0.127: -10.16,-2.5 -10.16,2.5 10.16,2.5 10.16,-2.5 -10.16,-2.5
  text "15" at 10.922,0.432 h1.5
  text "1" at -11.455,0.432 h1.5
  text "2" at -11.913,-2.108 h1.5
  text "16" at 10.922,-2.108 h1.5
Mechanical 15:
  lines w0.127: -0.762,0 0.762,0 ; 0,-0.762 0,0.762 ; -10.668,-3.048 -10.668,3.048 10.668,3.048 10.668,-3.048 -10.668,-3.048
3D body: height 7.1, standoff 0, extent -10.16,-2.5 10.16,2.5
3D body: height 0, standoff 0, extent 8.509,-1.651 9.271,-0.889
3D body: height 0, standoff 0, extent 8.509,0.889 9.271,1.651
3D body: height 0, standoff 0, extent 0.889,-1.651 1.651,-0.889
3D body: height 0, standoff 0, extent 0.889,0.889 1.651,1.651
3D body: height 0, standoff 0, extent -1.651,0.889 -0.889,1.651
3D body: height 0, standoff 0, extent -1.651,-1.651 -0.889,-0.889
3D body: height 0, standoff 0, extent -4.191,-1.651 -3.429,-0.889
3D body: height 0, standoff 0, extent -4.191,0.889 -3.429,1.651
3D body: height 0, standoff 0, extent -6.731,0.889 -5.969,1.651
3D body: height 0, standoff 0, extent -6.731,-1.651 -5.969,-0.889
3D body: height 0, standoff 0, extent -9.271,-1.651 -8.509,-0.889
3D body: height 0, standoff 0, extent -9.271,0.889 -8.509,1.651
3D body: height 0, standoff 0, extent 3.429,-1.651 4.191,-0.889
3D body: height 0, standoff 0, extent 3.429,0.889 4.191,1.651
3D body: height 0, standoff 0, extent 5.969,0.889 6.731,1.651
3D body: height 0, standoff 0, extent 5.969,-1.651 6.731,-0.889

## CNIDC16MHEPF [mm] "Male header 2x8 pin R2.54mm press fit + eject"
height 24.7
pads (16):
  rrect50% 1.6x1.6 hole 1 paste-1.27: 1(-1.27,8.89)
  round 1.6 hole 1 paste-1.27: 2(1.27,8.89) 3(-1.27,6.35) 4(1.27,6.35) 5(-1.27,3.81) 6(1.27,3.81) 7(-1.27,1.27) 8(1.27,1.27) 9(-1.27,-1.27) 10(1.27,-1.27) 11(-1.27,-3.81) 12(1.27,-3.81) 13(-1.27,-6.35) 14(1.27,-6.35) 15(-1.27,-8.89) 16(1.27,-8.89)
Top Overlay:
  circle w0.15: c-4.724,8.89 r0.152
  lines w0.127: -4.191,-19.939 4.191,-19.939 4.191,19.939 -4.191,19.939 -4.191,-19.939
Mechanical 13:
  circle w0.254: c-4.724,8.89 r0.152
  lines w0.102: -4.2,-19.93 -4.2,19.93 4.2,19.93 4.2,-19.93 -4.2,-19.93
Mechanical 15:
  lines w0.127: -5.08,-20.828 -5.08,20.955 5.08,20.955 5.08,-20.828 -5.08,-20.828
Mechanical 17:
  circle w1.15: c-1.28,-8.89 r0.01
  circle w1.15: c-1.28,-6.35 r0.01
  circle w1.15: c-1.28,-3.81 r0.01
  circle w1.15: c-1.28,-1.27 r0.01
  circle w1.15: c-1.28,1.27 r0.01
  circle w1.15: c-1.28,3.81 r0.01
  circle w1.15: c1.26,-8.89 r0.01
  circle w1.15: c1.26,-6.35 r0.01
  circle w1.15: c1.26,-3.81 r0.01
  circle w1.15: c1.26,-1.27 r0.01
  circle w1.15: c1.26,1.27 r0.01
  circle w1.15: c1.26,3.81 r0.01
  circle w1.15: c-1.28,6.35 r0.01
  circle w1.15: c-1.28,8.89 r0.01
  circle w1.15: c1.26,6.35 r0.01
  circle w1.15: c1.26,8.89 r0.01
  text "Finished hole: 1 + 0.09 - 0.06 mm" at -5.969,-16.129 h2.5
  text "Drilled hole: 1.15 ± 0.025  mm" at -8.001,-16.129 h2.5
3D body: height 13.2, standoff 6, extent 0.889,8.509 1.651,9.271
3D body: height 13.2, standoff 6, extent 0.889,5.969 1.651,6.731
3D body: height 13.2, standoff 6, extent 0.889,3.429 1.651,4.191
3D body: height 13.2, standoff 6, extent 0.889,0.889 1.651,1.651
3D body: height 13.2, standoff 6, extent 0.889,-1.651 1.651,-0.889
3D body: height 13.2, standoff 6, extent 0.889,-4.191 1.651,-3.429
3D body: height 13.2, standoff 6, extent 0.889,-6.731 1.651,-5.969
3D body: height 13.2, standoff 6, extent 0.889,-9.271 1.651,-8.509
3D body: height 0, standoff -4.6, extent 1.016,8.382 1.524,9.398
3D body: height 0, standoff -4.6, extent 1.016,5.842 1.524,6.858
3D body: height 0, standoff -4.6, extent 1.016,3.302 1.524,4.318
3D body: height 0, standoff -4.6, extent 1.016,0.762 1.524,1.778
3D body: height 0, standoff -4.6, extent 1.016,-1.778 1.524,-0.762
3D body: height 0, standoff -4.6, extent 1.016,-4.318 1.524,-3.302
3D body: height 0, standoff -4.6, extent 1.016,-6.858 1.524,-5.842
3D body: height 0, standoff -4.6, extent 1.016,-9.398 1.524,-8.382
3D body: height 0, standoff -4.6, extent -1.524,-9.398 -1.016,-8.382
3D body: height 0, standoff -4.6, extent -1.524,-6.858 -1.016,-5.842
3D body: height 0, standoff -4.6, extent -1.524,-4.318 -1.016,-3.302
3D body: height 0, standoff -4.6, extent -1.524,-1.778 -1.016,-0.762
3D body: height 0, standoff -4.6, extent -1.524,0.762 -1.016,1.778
3D body: height 0, standoff -4.6, extent -1.524,3.302 -1.016,4.318
3D body: height 0, standoff -4.6, extent -1.524,5.842 -1.016,6.858
3D body: height 0, standoff -4.6, extent -1.524,8.382 -1.016,9.398
3D body: height 13.2, standoff 6, extent -1.651,-9.271 -0.889,-8.509
3D body: height 13.2, standoff 6, extent -1.651,-6.731 -0.889,-5.969
3D body: height 13.2, standoff 6, extent -1.651,-4.191 -0.889,-3.429
3D body: height 13.2, standoff 6, extent -1.651,-1.651 -0.889,-0.889
3D body: height 13.2, standoff 6, extent -1.651,0.889 -0.889,1.651
3D body: height 13.2, standoff 6, extent -1.651,3.429 -0.889,4.191
3D body: height 13.2, standoff 6, extent -1.651,5.969 -0.889,6.731
3D body: height 13.2, standoff 6, extent -1.651,8.509 -0.889,9.271
3D body: height 13.2, standoff 6, extent -4.2,-19.93 0,-2.54
3D body: height 13.2, standoff 6, extent -4.2,2.54 0,19.93
3D body: height 13.2, standoff 6, extent 0,-19.93 4.2,19.93
3D body: height 24.7, standoff 13.2, extent -1.524,-19.93 1.524,-12.818
3D body: height 24.7, standoff 13.2, extent -1.524,12.818 1.524,19.93
3D body: height 6, standoff 0, extent -4.2,-19.93 4.2,19.93

## CNIDC20MHEPF [mm] "Male header 2x10 pin R2.54mm press fit + eject"
height 24.7
pads (20):
  rrect50% 1.6x1.6 hole 1 paste-1.27: 1(-1.27,11.43)
  round 1.6 hole 1 paste-1.27: 2(1.27,11.43) 3(-1.27,8.89) 4(1.27,8.89) 5(-1.27,6.35) 6(1.27,6.35) 7(-1.27,3.81) 8(1.27,3.81) 9(-1.27,1.27) 10(1.27,1.27) 11(-1.27,-1.27) 12(1.27,-1.27) 13(-1.27,-3.81) 14(1.27,-3.81) 15(-1.27,-6.35) 16(1.27,-6.35) 17(-1.27,-8.89) 18(1.27,-8.89) 19(-1.27,-11.43) 20(1.27,-11.43)
Top Overlay:
  circle w0.15: c-4.724,11.43 r0.152
  lines w0.127: -4.191,-22.479 -4.191,22.479 4.191,22.479 4.191,-22.479 -4.191,-22.479
Mechanical 13:
  circle w0.254: c-4.724,11.43 r0.152
  lines w0.102: -4.2,-22.47 4.2,-22.47 4.2,22.47 -4.2,22.47 -4.2,-22.47
Mechanical 15:
  lines w0.127: -5.08,-23.368 5.08,-23.368 5.08,23.368 -5.08,23.368 -5.08,-23.368
Mechanical 17:
  circle w1.15: c-1.28,-8.89 r0.01
  circle w1.15: c-1.28,-11.43 r0.01
  circle w1.15: c-1.28,-3.81 r0.01
  circle w1.15: c-1.28,-6.35 r0.01
  circle w1.15: c-1.28,1.27 r0.01
  circle w1.15: c-1.28,-1.27 r0.01
  circle w1.15: c-1.28,6.35 r0.01
  circle w1.15: c-1.28,3.81 r0.01
  circle w1.15: c1.26,-8.89 r0.01
  circle w1.15: c1.26,-11.43 r0.01
  circle w1.15: c1.26,-3.81 r0.01
  circle w1.15: c1.26,-6.35 r0.01
  circle w1.15: c1.26,1.27 r0.01
  circle w1.15: c1.26,-1.27 r0.01
  circle w1.15: c1.26,3.81 r0.01
  circle w1.15: c1.26,6.35 r0.01
  circle w1.15: c-1.28,8.89 r0.01
  circle w1.15: c1.26,8.89 r0.01
  circle w1.15: c-1.28,11.43 r0.01
  circle w1.15: c1.26,11.43 r0.01
  text "Drilled hole: 1.15 ± 0.025  mm" at -7.874,-12.192 h2.5
  text "Finished hole: 1 + 0.09 - 0.06 mm" at -5.842,-12.192 h2.5
3D body: height 6, standoff 0, extent -4.2,-22.47 4.2,22.47
3D body: height 24.7, standoff 13.2, extent -1.524,15.24 1.524,22.352
3D body: height 24.7, standoff 13.2, extent -1.524,-22.352 1.524,-15.24
3D body: height 13.2, standoff 6, extent 0,-22.47 4.2,22.47
3D body: height 13.2, standoff 6, extent -4.2,2.54 0,22.47
3D body: height 13.2, standoff 6, extent -4.2,-22.47 0,-2.54
3D body: height 13.2, standoff 6, extent -1.651,11.049 -0.889,11.811
3D body: height 13.2, standoff 6, extent -1.651,8.509 -0.889,9.271
3D body: height 13.2, standoff 6, extent -1.651,5.969 -0.889,6.731
3D body: height 13.2, standoff 6, extent -1.651,3.429 -0.889,4.191
3D body: height 13.2, standoff 6, extent -1.651,0.889 -0.889,1.651
3D body: height 13.2, standoff 6, extent -1.651,-1.651 -0.889,-0.889
3D body: height 13.2, standoff 6, extent -1.651,-4.191 -0.889,-3.429
3D body: height 13.2, standoff 6, extent -1.651,-6.731 -0.889,-5.969
3D body: height 13.2, standoff 6, extent -1.651,-9.271 -0.889,-8.509
3D body: height 13.2, standoff 6, extent -1.651,-11.811 -0.889,-11.049
3D body: height 0, standoff -4.6, extent -1.524,10.922 -1.016,11.938
3D body: height 0, standoff -4.6, extent -1.524,8.382 -1.016,9.398
3D body: height 0, standoff -4.6, extent -1.524,5.842 -1.016,6.858
3D body: height 0, standoff -4.6, extent -1.524,3.302 -1.016,4.318
3D body: height 0, standoff -4.6, extent -1.524,0.762 -1.016,1.778
3D body: height 0, standoff -4.6, extent -1.524,-1.778 -1.016,-0.762
3D body: height 0, standoff -4.6, extent -1.524,-4.318 -1.016,-3.302
3D body: height 0, standoff -4.6, extent -1.524,-6.858 -1.016,-5.842
3D body: height 0, standoff -4.6, extent -1.524,-9.398 -1.016,-8.382
3D body: height 0, standoff -4.6, extent -1.524,-11.938 -1.016,-10.922
3D body: height 0, standoff -4.6, extent 1.016,-11.938 1.524,-10.922
3D body: height 0, standoff -4.6, extent 1.016,-9.398 1.524,-8.382
3D body: height 0, standoff -4.6, extent 1.016,-6.858 1.524,-5.842
3D body: height 0, standoff -4.6, extent 1.016,-4.318 1.524,-3.302
3D body: height 0, standoff -4.6, extent 1.016,-1.778 1.524,-0.762
3D body: height 0, standoff -4.6, extent 1.016,0.762 1.524,1.778
3D body: height 0, standoff -4.6, extent 1.016,3.302 1.524,4.318
3D body: height 0, standoff -4.6, extent 1.016,5.842 1.524,6.858
3D body: height 0, standoff -4.6, extent 1.016,8.382 1.524,9.398
3D body: height 0, standoff -4.6, extent 1.016,10.922 1.524,11.938
3D body: height 13.2, standoff 6, extent 0.889,-11.811 1.651,-11.049
3D body: height 13.2, standoff 6, extent 0.889,-9.271 1.651,-8.509
3D body: height 13.2, standoff 6, extent 0.889,-6.731 1.651,-5.969
3D body: height 13.2, standoff 6, extent 0.889,-4.191 1.651,-3.429
3D body: height 13.2, standoff 6, extent 0.889,-1.651 1.651,-0.889
3D body: height 13.2, standoff 6, extent 0.889,0.889 1.651,1.651
3D body: height 13.2, standoff 6, extent 0.889,3.429 1.651,4.191
3D body: height 13.2, standoff 6, extent 0.889,5.969 1.651,6.731
3D body: height 13.2, standoff 6, extent 0.889,8.509 1.651,9.271
3D body: height 13.2, standoff 6, extent 0.889,11.049 1.651,11.811